# EAGLE library part 7SEGX4 (library bt_opto)
LED DISPLAY 4 x 1 digit, 7 segment, with decimal points to the right
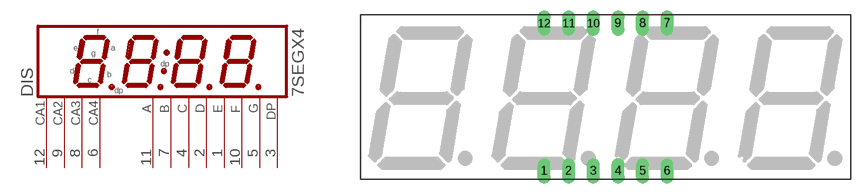
[diagram p0: symbol with the pads of 7SEGX4_12DIP; footprint 7SEGX4_12DIP]

Designator prefix DIS

## 7SEGX4  [7SEGX4_12DIP]
1  E  pas
2  D  pas
3  DP  pas
4  C  pas
5  G  pas
6  CA4  pas
7  B  pas
8  CA3  pas
9  CA2  pas
10  F  pas
11  A  pas
12  CA1  pas

## Footprint 7SEGX4_12DIP (pad centres in mm)
LED DISPLAY 15-mm 2 character 7 segment, decimal point right
drill 0.813 long: 1 -6.35,-7.62; 2 -3.81,-7.62; 3 -1.27,-7.62; 4 1.27,-7.62; 5 3.81,-7.62; 6 6.35,-7.62; 7 6.35,7.62; 8 3.81,7.62; 9 1.27,7.62; 10 -1.27,7.62; 11 -3.81,7.62; 12 -6.35,7.62